# Altium integrated library WAGO 254.IntLib: 2 symbols
Pins are listed as number, name and electrical type; pins without a type are passive.

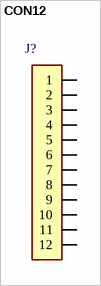
[diagram p0: symbol CON12]

## CON12
designator J?, comment 254-462  (value not drawn)
ID: 254-462; PDF: https://eshop.wago.com/JPBC/0_5StartPage.jsp;jsessionid=415FC5D9A68CB6E15630C145DD0DEF30?supplierAID=254-462&catalogID=WAGO01&zone=7; PRICE: *; BUY_LINK: http://www.wagoproducts.com/printed-circuit/series-254/wago-254-462/
footprint WAGO 254-462
pins: 1, 2, 3, 4, 5, 6, 7, 8, 9, 10, 11, 12


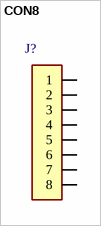
[diagram p1: symbol CON8]

## CON8
designator J?, comment 254-458  (value not drawn)
ID: 254-458; PDF: https://eshop.wago.com/JPBC/0_5StartPage.jsp?supplierAID=254-458&catalogID=WAGO01&zone=7; PRICE: *; BUY_LINK: https://eshop.wago.com/JPBC/0_5StartPage.jsp?supplierAID=254-458&catalogID=WAGO01&zone=7
footprint WAGO 254-458
pins: 1, 2, 3, 4, 5, 6, 7, 8